# Altium footprint library Transformers.PcbLib: 31 footprints (part 1 of 2)
Each footprint in its own frame and in the unit in brackets; x right, y up, seen from the top. Pads: shape width x height; smd on the part's side, far side on the other; paste and mask are expansions set on the pad; w line width, h text height; cw(c..) or ccw(c..) is an arc to the next point about the centre after c.
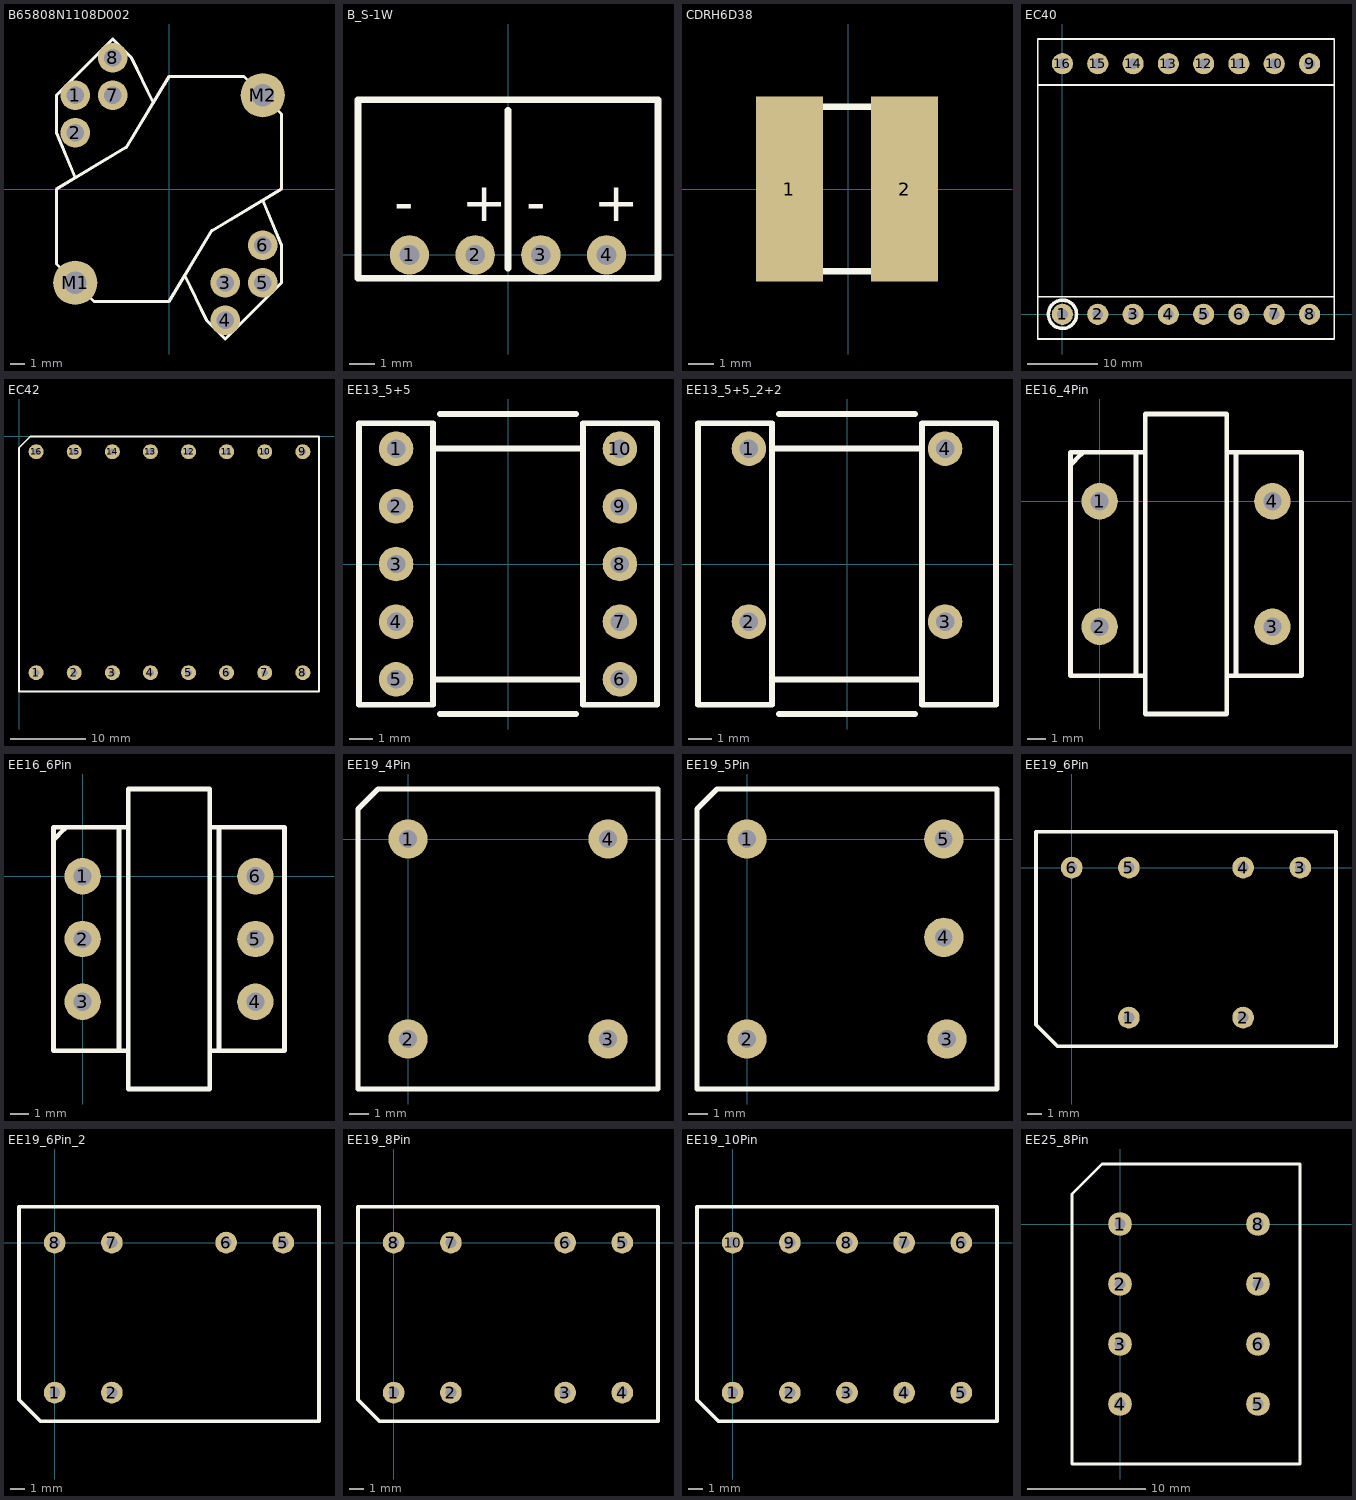
[diagram p0: the footprints below, top view; thin cyan lines are the x and y axes]

## B65808N1108D002 [mm] "RM6 4+4 Closed center flange with external wire guide"
pads (10):
  round 2 hole 1.2: 1(-6.35,6.35) 2(-6.35,3.81) 3(3.81,-6.35) 4(3.81,-8.89) 5(6.35,-6.35) 6(6.35,-3.81) 7(-3.81,6.35) 8(-3.81,8.89)
  round 3 hole 1.5: M1(-6.35,-6.35) M2(6.35,6.35)
Top Overlay:
  lines w0.2: -6.35,0.762 -7.62,3.81 -7.62,6.35 -3.81,10.16 -2.54,8.89 -1.067,5.842 ; -2.914,2.824 -7.62,0 -7.62,-5.08 -5.08,-7.62 0,-7.62 2.887,-2.808 ; -2.887,2.808 0,7.62 5.08,7.62 7.62,5.08 7.62,0 2.914,-2.824 ; 1.067,-5.842 2.54,-8.89 3.81,-10.16 7.62,-6.35 7.62,-3.81 6.35,-0.762
3D body: height 12.5, standoff 0, extent -7.62,-7.62 7.62,7.62

## B_S-1W [mil]
pads (4):
  round 60 hole 30: 1(-150,0) 2(-50,0) 3(50,0) 4(150,0)
Top Overlay:
  lines w10: 0,-20 0,220 ; -228.35,-35.43 228.35,-35.43 ; -228.35,-35.43 -228.35,236.22 228.35,236.22 228.35,-35.43 ; -228.35,-35.43 228.35,-35.43
  text "-" at -172.83,51.18 h60
  text "-" at 27.95,51.18 h60
  text "+" at 130.31,51.18 h60
  text "+" at -70.47,51.18 h60
3D body: height 380.31, standoff 19.68, extent -228.35,-35.43 228.35,236.22

## CDRH6D38 [mm]
pads (2):
  rect 2.65x7.3 smd: 1(-2.325,0) 2(2.235,0)
Top Overlay:
  lines w0.254: -3.25,-0.35 -3.25,-3.25 3.25,-3.25 3.25,-0.35 ; -3.25,0.35 -3.25,3.25 3.25,3.25 3.25,0.35
3D body: height 3.8, standoff 0, extent -3.25,-3.25 3.25,3.25

## EC40 [mm]
pads (16):
  round 3 hole 1.5: 1(0,0) 2(5,0) 3(10,0) 4(15,0) 5(20,0) 6(25,0) 7(30,0) 8(35,0) 9(35,35.5) 10(30,35.5) 11(25,35.5) 12(20,35.5) 13(15,35.5) 14(10,35.5) 15(5,35.5) 16(0,35.5)
Top Overlay:
  circle w0.5: c0,0 r2
  lines w0.254: -3.5,2.5 38.5,2.5 ; -3.5,32.5 38.5,32.5 ; -3.5,-3.5 -3.5,39 38.5,39 38.5,-3.5 -3.5,-3.5

## EC42 [mm]
pads (16):
  round 2 hole 0.9: 1(2.286,-31.496) 2(7.366,-31.496) 3(12.446,-31.496) 4(17.526,-31.496) 5(22.606,-31.496) 6(27.686,-31.496) 7(32.766,-31.496) 8(37.846,-31.496) 9(37.846,-2.032) 10(32.766,-2.032) 11(27.686,-2.032) 12(22.606,-2.032) 13(17.526,-2.032) 14(12.446,-2.032) 15(7.366,-2.032) 16(2.286,-2.032)
Top Overlay:
  lines w0.254: 0,-34 40,-34 40,0 1.524,0 0,-1.524 0,-34

## EE13_5+5 [mm]
pads (10):
  round 1.5 hole 0.8: 1(-4.85,5) 2(-4.85,2.5) 3(-4.85,0) 4(-4.85,-2.5) 5(-4.85,-5) 6(4.85,-5) 7(4.85,-2.5) 8(4.85,0) 9(4.85,2.5) 10(4.85,5)
Top Overlay:
  lines w0.254: -3.25,-5 3.25,-5 ; -3.25,5 3.25,5 ; -2.95,-6.5 2.95,-6.5 ; -2.95,6.5 2.95,6.5 ; -6.45,-6.1 -3.25,-6.1 -3.25,6.1 -6.45,6.1 -6.45,-6.1 ; 3.25,-6.1 6.45,-6.1 6.45,6.1 3.25,6.1 3.25,-6.1

## EE13_5+5_2+2 [mm]
pads (4):
  round 1.5 hole 0.8: 1(-4.25,5) 2(-4.25,-2.5) 3(4.25,-2.5) 4(4.25,5)
Top Overlay:
  lines w0.254: -3.25,-5 3.25,-5 ; -3.25,5 3.25,5 ; -2.95,-6.5 2.95,-6.5 ; -2.95,6.5 2.95,6.5 ; -6.45,-6.1 -6.45,6.1 -3.25,6.1 -3.25,-6.1 -6.45,-6.1 ; 3.25,-6.1 3.25,6.1 6.45,6.1 6.45,-6.1 3.25,-6.1

## EE16_4Pin [mm]
pads (4):
  round 2 hole 1: 1(0,0) 2(0,-6.9) 3(9.5,-6.9) 4(9.5,0)
Top Overlay:
  lines w0.254: -1.6,2 -1,2.6 -1,2.7 ; 2,-9.6 2,2.7 ; 2.5,-9.6 -1.6,-9.6 -1.6,2.7 2.5,2.7 ; 7,-9.6 11.1,-9.6 11.1,2.7 7,2.7 ; 7.5,-9.6 7.5,2.7 ; 2.5,-11.7 2.5,4.8 7,4.8 7,-11.7 2.5,-11.7

## EE16_6Pin [mm]
pads (6):
  round 2 hole 1: 1(0,0) 2(0,-3.45) 3(0,-6.9) 4(9.5,-6.9) 5(9.5,-3.45) 6(9.5,0)
Top Overlay:
  lines w0.254: -1.6,2 -1,2.6 ; 2,-9.6 2,2.7 ; 2.5,-9.6 -1.6,-9.6 -1.6,2.7 2.5,2.7 ; 7,-9.6 11.1,-9.6 11.1,2.7 7,2.7 ; 7.5,-9.6 7.5,2.7 ; 2.5,-11.7 7,-11.7 7,4.8 2.5,4.8 2.5,-11.7

## EE19_4Pin [mm]
pads (4):
  round 2 hole 0.9: 1(0,0) 2(0,-10.16) 3(10.16,-10.16) 4(10.16,0)
Top Overlay:
  lines w0.254: -2.54,-12.7 -2.54,1.524 -1.524,2.54 12.7,2.54 12.7,-12.7 -2.54,-12.7

## EE19_5Pin [mm]
pads (5):
  round 2 hole 0.9: 1(0,0) 2(0,-10.16) 3(10.16,-10.16) 4(10,-5) 5(10,0)
Top Overlay:
  lines w0.254: -2.54,-12.7 12.7,-12.7 12.7,2.54 -1.524,2.54 -2.54,1.524 -2.54,-12.7

## EE19_6Pin [mil]
pads (6):
  round 60 hole 30: 1(157.48,-413.39) 2(472.44,-413.39) 3(629.92,0) 4(472.44,0) 5(157.48,0) 6(0,0)
Top Overlay:
  lines w10: -98.43,-433.07 -39.37,-492.13 728.35,-492.13 728.35,98.43 -98.43,98.43 -98.43,-433.07

## EE19_6Pin_2 [mil]
pads (6):
  round 60 hole 30: 1(0,-413.39) 2(157.48,-413.39) 5(629.92,0) 6(472.44,0) 7(157.48,0) 8(0,0)
Top Overlay:
  lines w10: -98.43,-433.07 -98.43,98.43 728.35,98.43 728.35,-492.13 -39.37,-492.13 -98.43,-433.07

## EE19_8Pin [mil]
pads (8):
  round 60 hole 30: 1(0,-413.39) 2(157.48,-413.39) 3(472.44,-413.39) 4(629.92,-413.39) 5(629.92,0) 6(472.44,0) 7(157.48,0) 8(0,0)
Top Overlay:
  lines w10: -98.43,-433.07 -98.43,98.43 728.35,98.43 728.35,-492.13 -39.37,-492.13 -98.43,-433.07

## EE19_10Pin [mil]
pads (10):
  round 60 hole 30: 1(0,-413.39) 2(157.48,-413.39) 3(314.96,-413.39) 4(472.44,-413.39) 5(629.92,-413.39) 6(629.92,0) 7(472.44,0) 8(314.96,0) 9(157.48,0) 10(0,0)
Top Overlay:
  lines w10: -98.43,-433.07 -98.43,98.43 728.35,98.43 728.35,-492.13 -39.37,-492.13 -98.43,-433.07

## EE25_8Pin [mm]
pads (8):
  round 2 hole 0.9: 1(0,0) 2(0,-5.08) 3(0,-10.16) 4(0,-15.24) 5(11.684,-15.24) 6(11.684,-10.16) 7(11.684,-5.08) 8(11.684,0)
Top Overlay:
  lines w0.254: -4.064,-20.32 -4.064,-16.764 -4.064,2.54 -1.524,5.08 0,5.08 15.24,5.08 15.24,-20.32 -4.064,-20.32